# Altium schematic symbol library C3E-8.000-8-1015-R.SchLib: 1 symbol
Pins are listed as number, name and electrical type; pins without a type are passive.

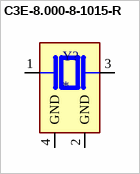
[diagram p0: symbol C3E-8.000-8-1015-R]

## C3E-8.000-8-1015-R
designator Y?
MP: C3E-8.000-8-1015-R; Package: None; Price: None; Value: *; Availability: Unavailable
footprint XTAL_C3E-8.000-8-1015-R
pins: 1, 2 GND (power), 3 2, 4 GND (power)